# Altium footprint library WWOL.PcbLib: 20 footprints (part 2 of 2)
Each footprint in its own frame and in the unit in brackets; x right, y up, seen from the top. Pads: shape width x height; smd on the part's side, far side on the other; paste and mask are expansions set on the pad; w line width, h text height; cw(c..) or ccw(c..) is an arc to the next point about the centre after c.
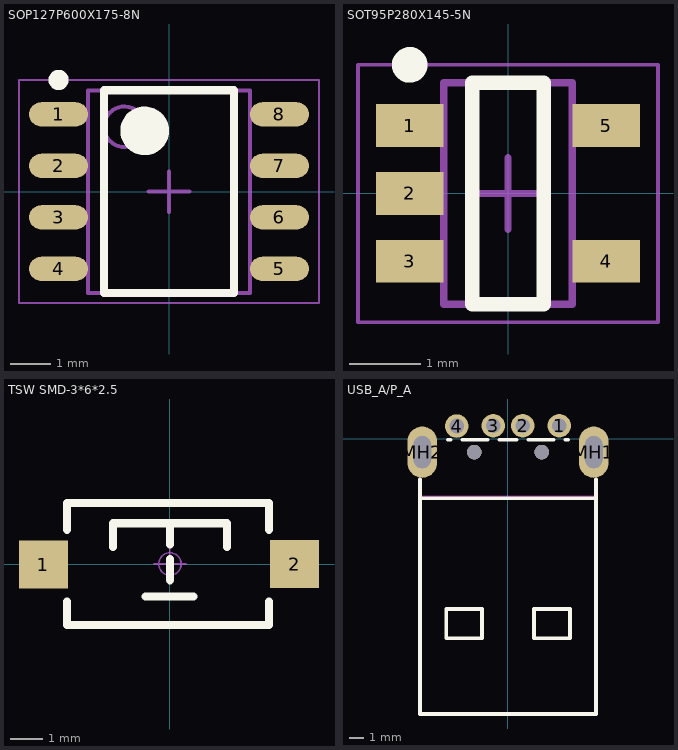
[diagram p1: the footprints below, top view; thin cyan lines are the x and y axes]

## SOP127P600X175-8N [mm] "SOP, 8-Leads, Body 4.85x3.90mm, Pitch 1.27mm, IPC Medium Density"
height 1.75
pads (8):
  oval 1.45x0.6 smd: 1(-2.725,1.905) 2(-2.725,0.635) 3(-2.725,-0.635) 4(-2.725,-1.905) 5(2.725,-1.905) 6(2.725,-0.635) 7(2.725,0.635) 8(2.725,1.905)
Top Overlay:
  circle w0.25: c-2.725,2.755 r0.125
  circle w0.6: c-0.6,1.5 r0.3
  lines w0.2: -1.6,-2.5 -1.6,2.5 1.6,2.5 1.6,-2.5 -1.6,-2.5
Mechanical 13:
  circle w0.1: c-1.1,1.6 r0.5
  lines w0.1: -2,-2.5 -2,2.5 2,2.5 2,-2.5 -2,-2.5
Mechanical 15:
  lines w0.05: -3.7,-2.75 -3.7,2.75 3.7,2.75 3.7,-2.75 -3.7,-2.75
  lines w0.1: -0.5,0 0.5,0 ; 0,-0.5 0,0.5
3D body: height 1.75, standoff 0.1, extent -2,-2.5 2,2.5

## SOT95P280X145-5N [mm] "SOT23, 5-Leads, Body 2.90x2.80mm, Pitch 0.95mm, IPC Medium Density"
height 1.45
pads (5):
  rect 0.95x0.6 smd: 1(-1.375,0.95) 2(-1.375,0) 3(-1.375,-0.95) 4(1.375,-0.95) 5(1.375,0.95)
Top Overlay:
  circle w0.25: c-1.375,1.8 r0.125
  lines w0.2: -0.5,-1.55 0.5,-1.55 0.5,1.55 -0.5,1.55 -0.5,-1.55
Mechanical 13:
  lines w0.1: -0.9,-1.55 -0.9,1.55 0.9,1.55 0.9,-1.55 -0.9,-1.55
Mechanical 15:
  lines w0.05: -2.1,-1.8 -2.1,1.8 2.1,1.8 2.1,-1.8 -2.1,-1.8
  lines w0.1: -0.5,0 0.5,0 ; 0,-0.5 0,0.5
3D body: height 1.45, standoff 0, extent -0.9,-1.55 0.9,1.55

## TSW SMD-3*6*2.5 [mil] "3*6*2.5mm"
pads (2):
  rect 60x59.06 smd: 1(-155.31,-0.79) 2(153,0)
Top Overlay:
  lines w10: -126.44,-46 -126.44,-74.8 121.59,-74.8 121.59,-46 ; -126.44,42 -126.44,74.8 121.59,74.8 121.59,42 ; -70,21 -70,50 70,50 70,21 ; -30,-40 29,-40 ; 0,-20 0,6 ; 0,24 0,50
Mechanical 15:
  circle w1.97: c0,0 r13.78
  lines w1.97: -19.68,0 19.68,0 ; 0,-19.68 0,19.68
3D body "TSW SMD-3x6x2.5.STEP": height 101.97, standoff -0.98, extent -157.48,-73.89 157.48,63.9

## USB_A/P_A [mm] "精拓金 917-181A102ED60200"
pads (8):
  round 1.6 hole 1: 1(3.5,0.9) 2(1,0.9) 3(-1,0.9) 4(-3.5,0.877)
  oval 2x3.5 hole 1.2 slot 2.2 at 90 deg: MH1(5.85,-0.9) MH2(-5.85,-0.9)
  round 1 hole 1 unplated: ""(-2.3,-0.9) ""(2.3,-0.9)
Top Overlay:
  lines w0.254: -6.007,-4.049 6.006,-4.049 ; -6.007,-2.743 -6.007,-18.764 6.006,-18.764 6.006,-2.749 ; -4.117,-0.049 -3.898,-0.049 ; -3.102,-0.049 -1.398,-0.049 ; -0.601,-0.049 0.602,-0.049 ; 1.399,-0.049 3.102,-0.049 ; 3.898,-0.049 4.117,-0.049 ; -4.216,-13.6 -4.216,-11.6 -1.769,-11.6 -1.769,-13.6 -4.216,-13.6 ; 1.768,-13.6 1.768,-11.6 4.23,-11.6 4.23,-13.6 1.768,-13.6
Keep-Out Layer:
  lines w0.254: -6,-4 6,-4
3D body "USB A型 ?": height 3.25, standoff -2.52, extent -6.524,-18.8 6.423,1.205